# Altium schematic symbol library UMJ325AB7475KMHP.SchLib: 1 symbol
Pins are listed as number, name and electrical type; pins without a type are passive.

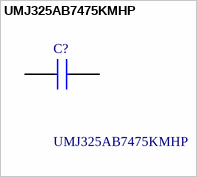
[diagram p0: symbol UMJ325AB7475KMHP]

## UMJ325AB7475KMHP
designator C?
4.7 F +/-10% 50V Ceramic Capacitor X7R 1210 (3225 Metric); Manufacturer_Name: TAIYO YUDEN; Geometry.Height: 2.8mm; Mouser Part Number: 963-UMJ325AB7475KMHP; Mouser Price/Stock: https://www.mouser.co.uk/ProductDetail/TAIYO-YUDEN/UMJ325AB7475KMHP?qs=sBf%2Fb4nBSlehnKp%252BnIaW0Q%3D%3D; Manufacturer_Part_Number: UMJ325AB7475KMHP; Datasheet Link: https://ds.yuden.co.jp/TYCOMPAS/or/specSheet?pn=MCJCU32MAB7475KPPA01
footprint CAPC3225X280N
pins: 1, 2